# Altium footprint library LC Circuit.PcbLib: 18 footprints (part 2 of 2)
Each footprint in its own frame and in the unit in brackets; x right, y up, seen from the top. Pads: shape width x height; smd on the part's side, far side on the other; paste and mask are expansions set on the pad; w line width, h text height; cw(c..) or ccw(c..) is an arc to the next point about the centre after c.
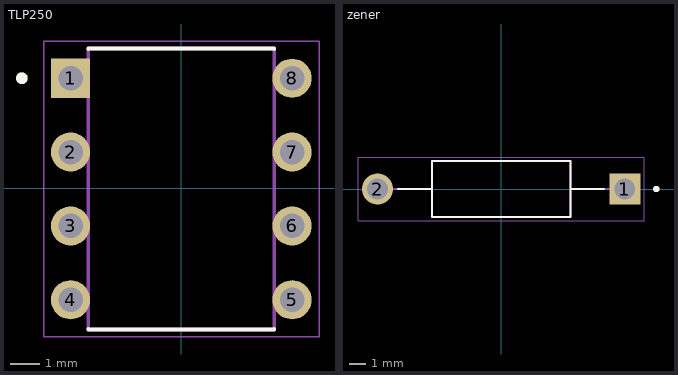
[diagram p1: the footprints below, top view; thin cyan lines are the x and y axes]

## TLP250 [mil]
pads (8):
  rect 53.07x53.07 / inner round 53.07 / far side rect 53.07x53.07 hole 33.07: 1(-150,149)
  round 53.07 hole 33.07: 2(-150,49) 3(-150,-51) 4(-150,-151) 5(150,-151) 6(150,-51) 7(150,49) 8(150,149)
Top Overlay:
  circle w7.87: c-215.91,149 r3.94
  lines w5: -125.98,-190.13 -125.98,-191.16 125.98,-191.16 125.98,-190.13 ; -125.98,188.13 -125.98,189.16 125.98,189.16 125.98,188.13 ; -125,-191.16 125,-191.16 ; -125,189.16 125,189.16
Mechanical 13:
  circle w7.87: c-215.91,149 r3.94
  lines w5: -125.98,-191.16 125.98,-191.16 125.98,189.16 -125.98,189.16 -125.98,-191.16
Mechanical 15:
  lines w1.97: -186.38,-201 -186.38,199 186.38,199 186.38,-201 -186.38,-201
3D body "step_temp.STEP": height 190.94, standoff -98.43, extent -190.16,-169.79 190.16,167.79

## zener [mm]
pads (2):
  rect 1.94x1.94 / inner round 1.94 / far side rect 1.94x1.94 hole 1.29: 1(7.715,0)
  round 1.94 hole 1.29: 2(-7.715,0)
Top Overlay:
  circle w0.2: c9.685,0 r0.1
  lines w0.127: -6.425,0 -4.317,0 ; 6.425,0 4.317,0 ; -4.317,0 -4.317,-1.745 4.317,-1.745 4.317,0 ; -4.317,0 -4.317,1.745 4.317,1.745 4.317,0
Mechanical 13:
  circle w0.2: c9.685,0 r0.1
  lines w0.127: -7.715,0 -4.317,0 ; 7.715,0 4.317,0 ; -4.317,0 -4.317,-1.745 4.317,-1.745 4.317,0 ; -4.317,0 -4.317,1.745 4.317,1.745 4.317,0
Mechanical 15:
  lines w0.05: -8.935,-1.995 -8.935,1.995 8.935,1.995 8.935,-1.995 -8.935,-1.995
3D body "step_temp.STEP": height 3.68, standoff -27.65, extent -7.874,-1.842 7.874,1.841